# Altium footprint library bts555.PcbLib: 1 footprints
Each footprint in its own frame and in the unit in brackets; x right, y up, seen from the top. Pads: shape width x height; smd on the part's side, far side on the other; paste and mask are expansions set on the pad; w line width, h text height; cw(c..) or ccw(c..) is an arc to the next point about the centre after c.
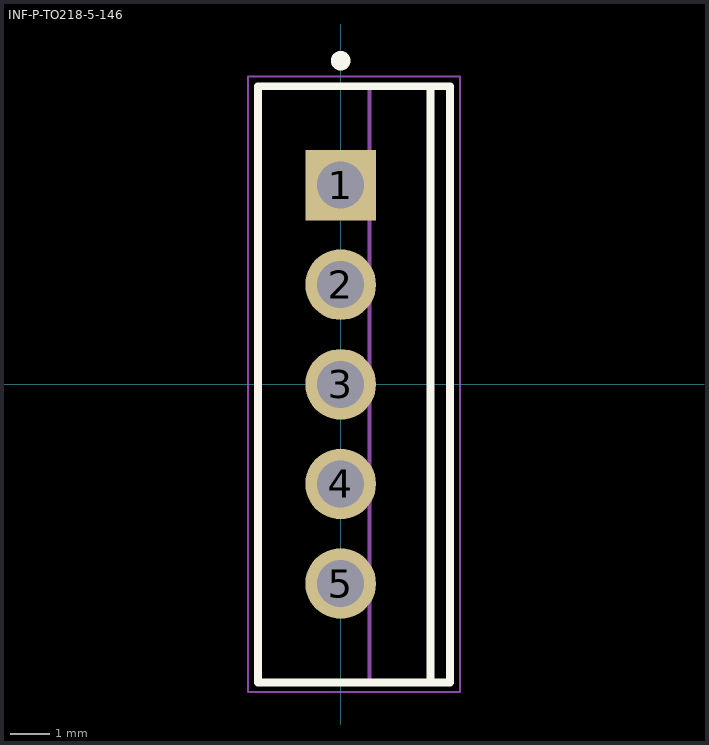
[diagram p0: the footprint, top view; thin cyan lines are the x and y axes]

## INF-P-TO218-5-146 [mm] "FM, 5-Leads, Body 15x12.5mm, Pitch 2.54mm"
height 22.2
pads (5):
  rect 1.8x1.8 hole 1.2: 1(0,5.08)
  round 1.8 hole 1.2: 2(0,2.54) 3(0,0) 4(0,-2.54) 5(0,-5.08)
Top Overlay:
  circle w0.25: c0,8.25 r0.125
  lines w0.2: 2.29,-7.6 2.29,7.6 ; -2.11,-7.6 2.79,-7.6 2.79,7.6 -2.11,7.6 -2.11,-7.6
Mechanical 13:
  lines w0.1: 0.74,-7.6 0.74,7.6 ; -2.11,-7.6 -2.11,7.6 2.79,7.6 2.79,-7.6 -2.11,-7.6
Mechanical 15:
  lines w0.05: -2.36,-7.85 -2.36,7.85 3.04,7.85 3.04,-7.85 -2.36,-7.85
  lines w0.1: -0.5,0 0.5,0 ; 0,-0.5 0,0.5
3D body: height 1.7, standoff 0, extent -0.29,4.43 0.29,5.73
3D body: height 0, standoff -1.6, extent -0.29,4.53 0.29,5.63
3D body: height 1.7, standoff 0, extent -0.29,1.89 0.29,3.19
3D body: height 0, standoff -1.6, extent -0.29,1.99 0.29,3.09
3D body: height 1.7, standoff 0, extent -0.29,-0.65 0.29,0.65
3D body: height 0, standoff -1.6, extent -0.29,-0.55 0.29,0.55
3D body: height 1.7, standoff 0, extent -0.29,-3.19 0.29,-1.89
3D body: height 0, standoff -1.6, extent -0.29,-3.09 0.29,-1.99
3D body: height 1.7, standoff 0, extent -0.29,-5.73 0.29,-4.43
3D body: height 0, standoff -1.6, extent -0.29,-5.63 0.29,-4.53
3D body: height 14.4, standoff 1.7, extent -2.11,-7.6 2.79,7.6
3D body: height 16.15, standoff 14.4, extent 0.74,-7.5 2.79,7.5
3D body: height 16.19, standoff 16.15, extent 0.74,0.4 2.79,7.5
3D body: height 16.19, standoff 16.15, extent 0.74,-7.5 2.79,-0.4
3D body: height 20.25, standoff 20.21, extent 0.74,0.4 2.79,7.5
3D body: height 20.25, standoff 20.21, extent 0.74,-7.5 2.79,-0.4
3D body: height 16.31, standoff 16.19, extent 0.74,0.785 2.79,7.5
3D body: height 16.31, standoff 16.19, extent 0.74,-7.5 2.79,-0.785
3D body: height 20.22, standoff 20.09, extent 0.74,0.785 2.79,7.5
3D body: height 20.22, standoff 20.09, extent 0.74,-7.5 2.79,-0.785
3D body: height 16.5, standoff 16.31, extent 0.74,1.139 2.79,7.5
3D body: height 16.5, standoff 16.31, extent 0.74,-7.5 2.79,-1.139
3D body: height 20.1, standoff 19.9, extent 0.74,1.139 2.79,7.5
3D body: height 20.1, standoff 19.9, extent 0.74,-7.5 2.79,-1.139
3D body: height 16.76, standoff 16.5, extent 0.74,1.45 2.79,7.5
3D body: height 16.76, standoff 16.5, extent 0.74,-7.5 2.79,-1.45
3D body: height 19.91, standoff 19.65, extent 0.74,1.45 2.79,7.5
3D body: height 19.91, standoff 19.65, extent 0.74,-7.5 2.79,-1.45
3D body: height 17.07, standoff 16.75, extent 0.74,1.705 2.79,7.5
3D body: height 17.07, standoff 16.75, extent 0.74,-7.5 2.79,-1.705
3D body: height 19.65, standoff 19.34, extent 0.74,1.705 2.79,7.5
3D body: height 19.65, standoff 19.34, extent 0.74,-7.5 2.79,-1.705
3D body: height 17.42, standoff 17.06, extent 0.74,1.894 2.79,7.5
3D body: height 17.42, standoff 17.06, extent 0.74,-7.5 2.79,-1.894
3D body: height 19.34, standoff 18.98, extent 0.74,1.894 2.79,7.5
3D body: height 19.34, standoff 18.98, extent 0.74,-7.5 2.79,-1.894
3D body: height 17.81, standoff 17.42, extent 0.74,2.011 2.79,7.5
3D body: height 17.81, standoff 17.42, extent 0.74,-7.5 2.79,-2.011
3D body: height 18.99, standoff 18.6, extent 0.74,2.011 2.79,7.5
3D body: height 18.99, standoff 18.6, extent 0.74,-7.5 2.79,-2.011
3D body: height 18.2, standoff 17.8, extent 0.74,2.05 2.79,7.5
3D body: height 18.2, standoff 17.8, extent 0.74,-7.5 2.79,-2.05
3D body: height 18.6, standoff 18.2, extent 0.74,2.05 2.79,7.5
3D body: height 18.6, standoff 18.2, extent 0.74,-7.5 2.79,-2.05
3D body: height 22.2, standoff 20.25, extent 0.74,-7.5 2.79,7.5